# Altium footprint library PcbLib1.PcbLib: 95 footprints (part 2 of 6)
Each footprint in its own frame and in the unit in brackets; x right, y up, seen from the top. Pads: shape width x height; smd on the part's side, far side on the other; paste and mask are expansions set on the pad; w line width, h text height; cw(c..) or ccw(c..) is an arc to the next point about the centre after c.
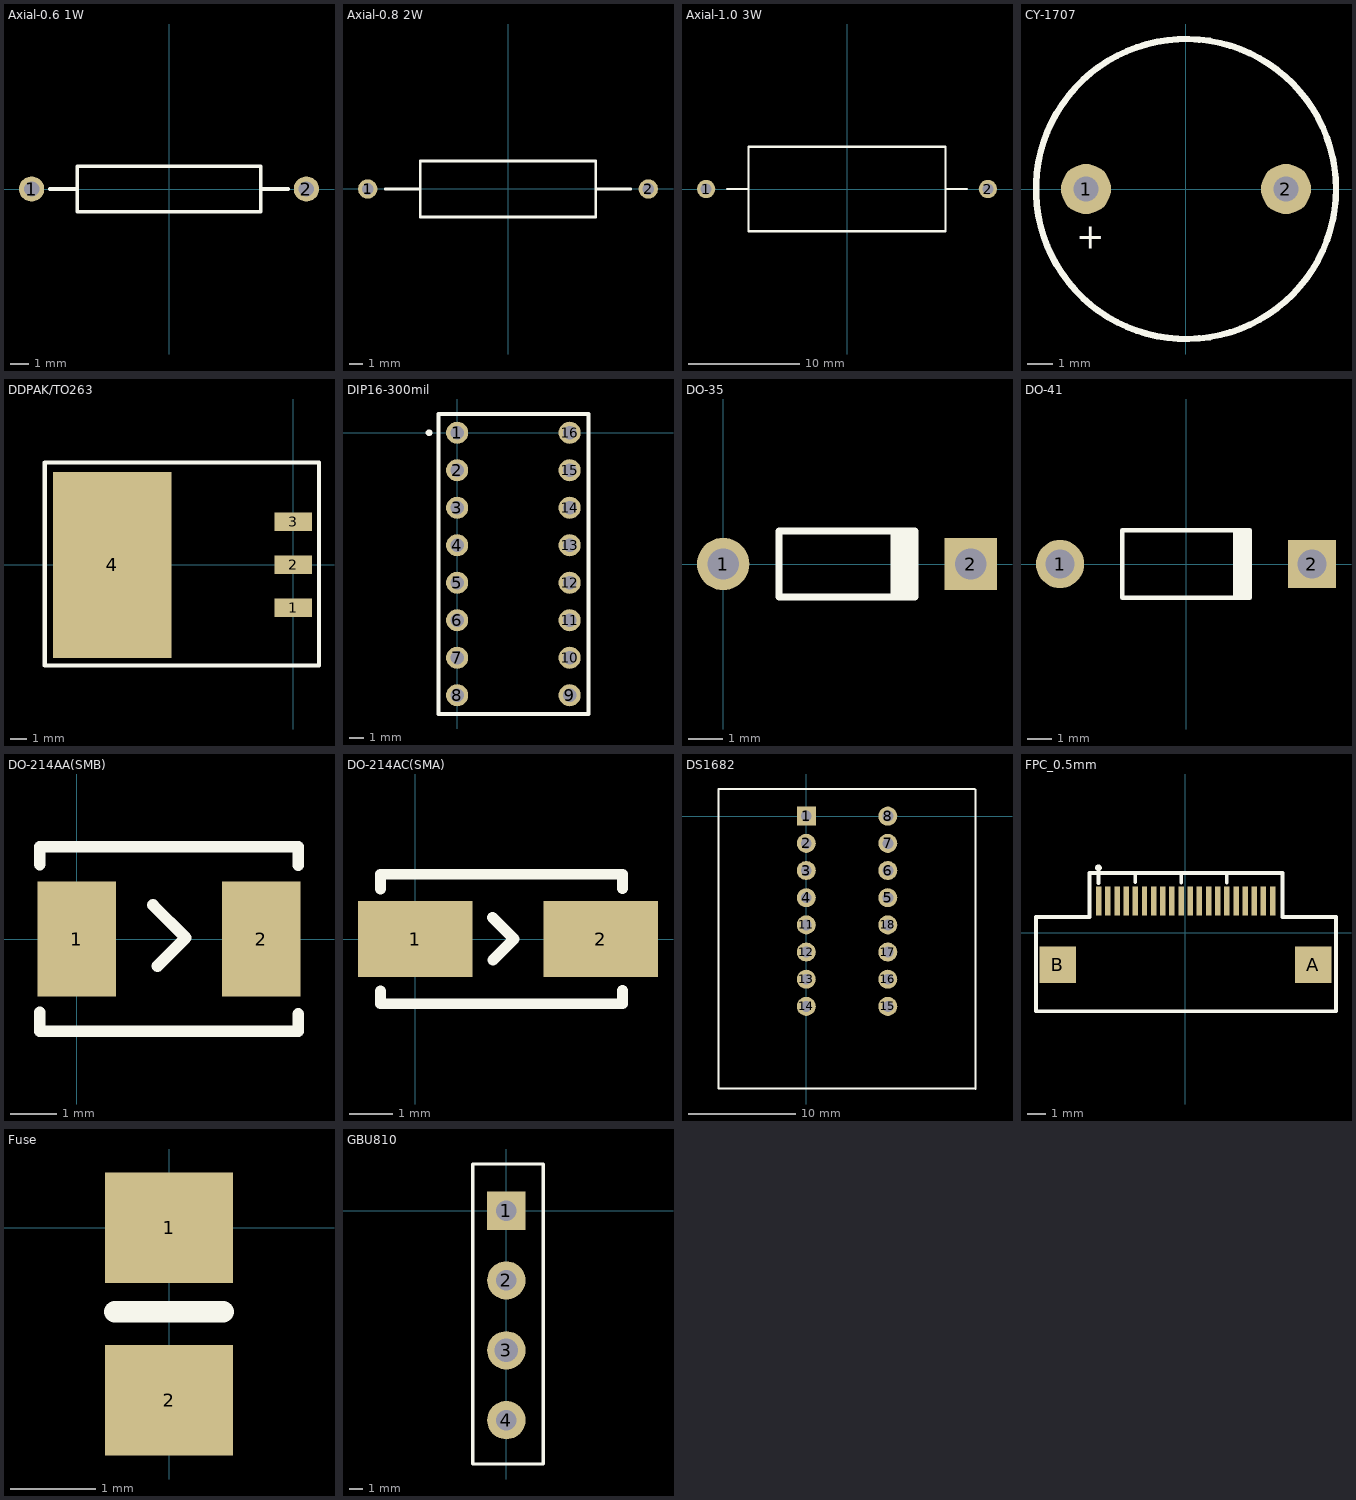
[diagram p1: the footprints below, top view; thin cyan lines are the x and y axes]

## Axial-0.6 1W [mm]
height 2.54
pads (2):
  round 1.4 hole 0.85: 1(-7.62,0) 2(7.62,0)
Top Overlay:
  lines w0.2: -6.604,0 -5.08,0 ; 5.08,0 6.604,0 ; -5.08,-1.27 5.08,-1.27 5.08,1.27 -5.08,1.27 -5.08,-1.27

## Axial-0.8 2W [mm]
height 4.064
pads (2):
  round 1.4 hole 0.85: 1(-10.16,-0.025) 2(10.16,-0.025)
Top Overlay:
  lines w0.2: -8.89,-0.025 -6.35,-0.025 ; 6.35,-0.025 8.89,-0.025 ; -6.35,-2.057 -6.35,2.007 6.35,2.007 6.35,-2.057 -6.35,-2.057

## Axial-1.0 3W [mm]
height 7.62
pads (2):
  round 1.65 hole 1: 1(-12.7,0) 2(12.7,0)
Top Overlay:
  lines w0.2: -10.795,0 -8.89,0 ; 8.89,0 10.795,0 ; -8.89,-3.81 -8.89,3.81 8.89,3.81 8.89,-3.81 -8.89,-3.81

## Axial-1.2 [mm]

## CY-1707 [mm]
pads (2):
  round 2 hole 1: 1(-4,0) 2(4,0)
Top Overlay:
  circle w0.254: c0,0 r6
  text "+" at -4.394,-2.388 h1
3D body: height 9.3, standoff -3.5, extent -6.051,-6.025 5.949,5.975

## DDPAK/TO263 [mm]
pads (4):
  rect 2.2x1.1 smd: 1(0,-2.54) 2(0,0) 3(0,2.54)
  rect 7x11 smd: 4(-10.7,0)
Top Overlay:
  lines w0.254: -14.681,-5.944 1.524,-5.944 1.524,6.045 -14.681,6.045 -14.681,-5.944

## DIP16-300mil [mm]
height 3.302
pads (16):
  round 1.5 hole 0.9: 1(0,0) 2(0,-2.54) 3(0,-5.08) 4(0,-7.62) 5(0,-10.16) 6(0,-12.7) 7(0,-15.24) 8(0,-17.78) 9(7.62,-17.78) 10(7.62,-15.24) 11(7.62,-12.7) 12(7.62,-10.16) 13(7.62,-7.62) 14(7.62,-5.08) 15(7.62,-2.54) 16(7.62,0)
Top Overlay:
  circle w0.254: c-1.903,0 r0.1
  lines w0.254: -1.27,-19.05 -1.27,1.27 8.89,1.27 8.89,-19.05 -1.27,-19.05

## DO-35 [mm]
height 1.9
pads (2):
  round 1.5 hole 0.9: 1(0,0)
  rect 1.5x1.5 hole 0.9: 2(7.1,0)
Top Overlay:
  rectangle: 4.8,-0.95 5.6,0.95
  lines w0.2: 5.5,-0.95 1.6,-0.95 1.6,0.95 5.5,0.95

## DO-41 [mm]
height 2.8
pads (2):
  round 2 hole 1.2: 1(-5.23,0)
  rect 2x2 hole 1.2: 2(5.23,0)
Top Overlay:
  rectangle: 1.95,-1.4 2.75,1.4
  lines w0.2: 2.65,-1.4 -2.65,-1.4 -2.65,1.4 2.65,1.4

## DO-214AA(SMB) [mm]
pads (2):
  rect 1.7x2.5 smd: 1(0,0) 2(4,0)
Top Overlay:
  lines w0.254: -0.8,-1.587 -0.8,-2 4.8,-2 4.8,-1.625 ; -0.8,1.613 -0.8,2 4.8,2 4.8,1.6 ; 1.651,0.737 2.362,0.025 1.753,-0.584

## DO-214AB(SMC) [mm]

## DO-214AC(SMA) [mm]
pads (2):
  rect 2.65x1.75 smd: 1(0,0) 2(4.3,0)
Top Overlay:
  lines w0.254: -0.8,-1.203 -0.8,-1.5 4.8,-1.5 4.8,-1.19 ; -0.8,1.159 -0.8,1.5 4.8,1.5 4.8,1.165 ; 1.791,0.495 2.286,0 1.803,-0.483

## DS1682 [mil]
pads (16):
  rect 70x70 hole 40: 1(0,0)
  round 70 hole 40: 2(0,-100) 3(0,-200) 4(0,-300) 5(300,-300) 6(300,-200) 7(300,-100) 8(300,0) 11(0,-400) 12(0,-500) 13(0,-600) 14(0,-700) 15(300,-700) 16(300,-600) 17(300,-500) 18(300,-400)
Top Overlay:
  lines w7.87: -322.83,-1002.36 622.05,-1002.36 ; -322.83,100 618.1,100 ; -322.44,-1000 -322.44,98.42 ; 622.44,-1003.94 622.44,98.43

## FPC_0.5mm [mm]
pads (22):
  rect 0.3x1.6 smd: 1(-4.733,1.744) 2(-4.233,1.744) 3(-3.733,1.744) 4(-3.233,1.744) 5(-2.733,1.744) 6(-2.233,1.744) 7(-1.733,1.744) 8(-1.233,1.744) 9(-0.733,1.744) 10(-0.233,1.744) 11(0.266,1.744) 12(0.766,1.744) 13(1.266,1.744) 14(1.766,1.744) 15(2.266,1.744) 16(2.766,1.744) 17(3.266,1.744) 18(3.766,1.744) 19(4.266,1.744) 20(4.766,1.744)
  rect 2x2 smd: A(6.982,-1.744) B(-6.982,-1.744)
Top Overlay:
  circle w0.254: c-4.75,3.556 r0.057
  lines w0.2: -4.75,2.718 -4.75,3.218 ; -2.733,2.769 -2.733,3.269 ; -0.233,2.744 -0.233,3.269 ; 2.266,2.744 2.266,3.244 ; -8.161,-4.281 8.229,-4.281 8.229,0.867 5.308,0.867 5.308,3.269 -5.24,3.269 -5.24,0.867 -8.161,0.867 -8.161,-4.281
3D body: height 2, standoff 0, extent -6.909,-4.166 7.341,0.762

## Fuse [mm]
pads (2):
  rect 1.5x1.3 smd: 1(0,0) 2(0,-2.027)
Top Overlay:
  lines w0.254: -0.635,-0.989 0.635,-0.989
3D body: height 0.7, standoff 0, extent -0.762,-2.083 0.737,-1.803
3D body: height 0.7, standoff 0, extent -0.762,-0.051 0.737,0.229
3D body: height 0.6, standoff 0.1, extent -0.737,-1.956 0.711,0.102

## GBU810 [mm]
pads (4):
  rect 2.8x2.8 hole 1.5: 1(0,0)
  round 2.8 hole 1.5: 2(0,-5.1) 4(0,-15.3)
  round 2.8 hole 1.7: 3(0,-10.2)
Top Overlay:
  lines w0.254: -2.464,-18.5 2.7,-18.5 2.7,3.4 -2.464,3.4 -2.464,-18.5